# Altium footprint library INDP6060X450.PcbLib: 1 footprints
Each footprint in its own frame and in the unit in brackets; x right, y up, seen from the top. Pads: shape width x height; smd on the part's side, far side on the other; paste and mask are expansions set on the pad; w line width, h text height; cw(c..) or ccw(c..) is an arc to the next point about the centre after c.
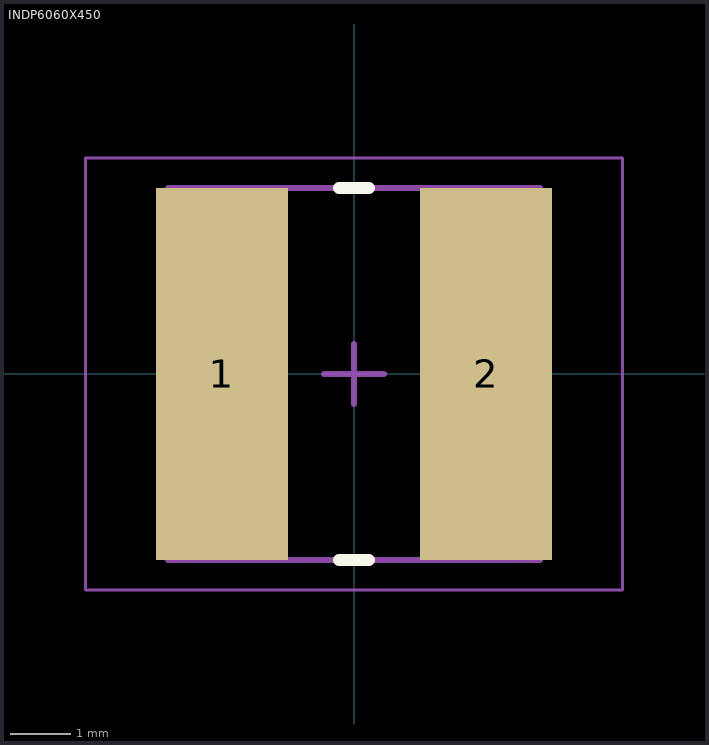
[diagram p0: the footprint, top view; thin cyan lines are the x and y axes]

## INDP6060X450 [mm] "Precision Wire Wound Inductor, 2-Leads, Body 6,00x6,00mm, IPC Low Density"
height 4.5
pads (2):
  rect 2.2x6.2 smd: 1(-2.2,0) 2(2.2,0)
Top Overlay:
  lines w0.2: -0.25,-3.1 0.25,-3.1 ; -0.25,3.1 0.25,3.1
3D Body:
  lines w0.1: -3.1,-3.1 -3.1,3.1 3.1,3.1 3.1,-3.1 -3.1,-3.1
Board:
  lines w0.05: -4.475,-3.6 -4.475,3.6 4.475,3.6 4.475,-3.6 -4.475,-3.6
  lines w0.1: -0.5,0 0.5,0 ; 0,-0.5 0,0.5
3D body: height 4.5, standoff 0, extent -3.1,-3.1 3.1,3.1